# Altium footprint library TYCO 338068-8.PcbLib: 1 footprints
Each footprint in its own frame and in the unit in brackets; x right, y up, seen from the top. Pads: shape width x height; smd on the part's side, far side on the other; paste and mask are expansions set on the pad; w line width, h text height; cw(c..) or ccw(c..) is an arc to the next point about the centre after c.
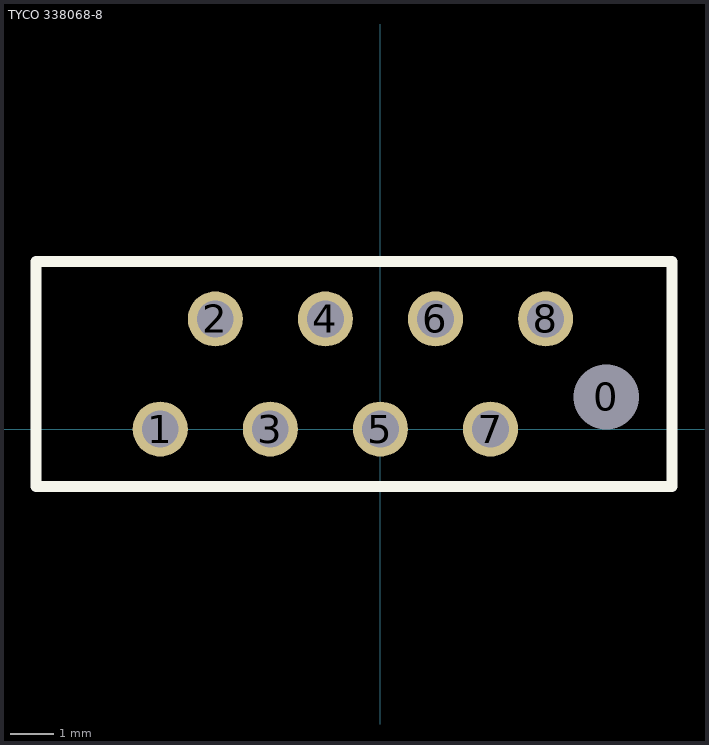
[diagram p0: the footprint, top view; thin cyan lines are the x and y axes]

## TYCO 338068-8 [mm] "8 position Micro-MaTch receptacle"
pads (9):
  round 1.27 hole 1.5: 0(5.21,0.74)
  round 1.27 hole 0.85: 1(-5.08,0) 2(-3.81,2.54) 3(-2.54,0) 4(-1.27,2.54) 5(0,0) 6(1.27,2.54) 7(2.54,0) 8(3.81,2.54)
Top Overlay:
  lines w0.254: -7.95,-1.33 -7.95,3.87 6.731,3.87 6.731,-1.33 -7.95,-1.33
3D body: height 4, standoff -3.1, extent -7.925,-1.205 6.705,3.795